# Altium footprint library BOBINAS E INDUTORES.PcbLib: 7 footprints
Each footprint in its own frame and in the unit in brackets; x right, y up, seen from the top. Pads: shape width x height; smd on the part's side, far side on the other; paste and mask are expansions set on the pad; w line width, h text height; cw(c..) or ccw(c..) is an arc to the next point about the centre after c.
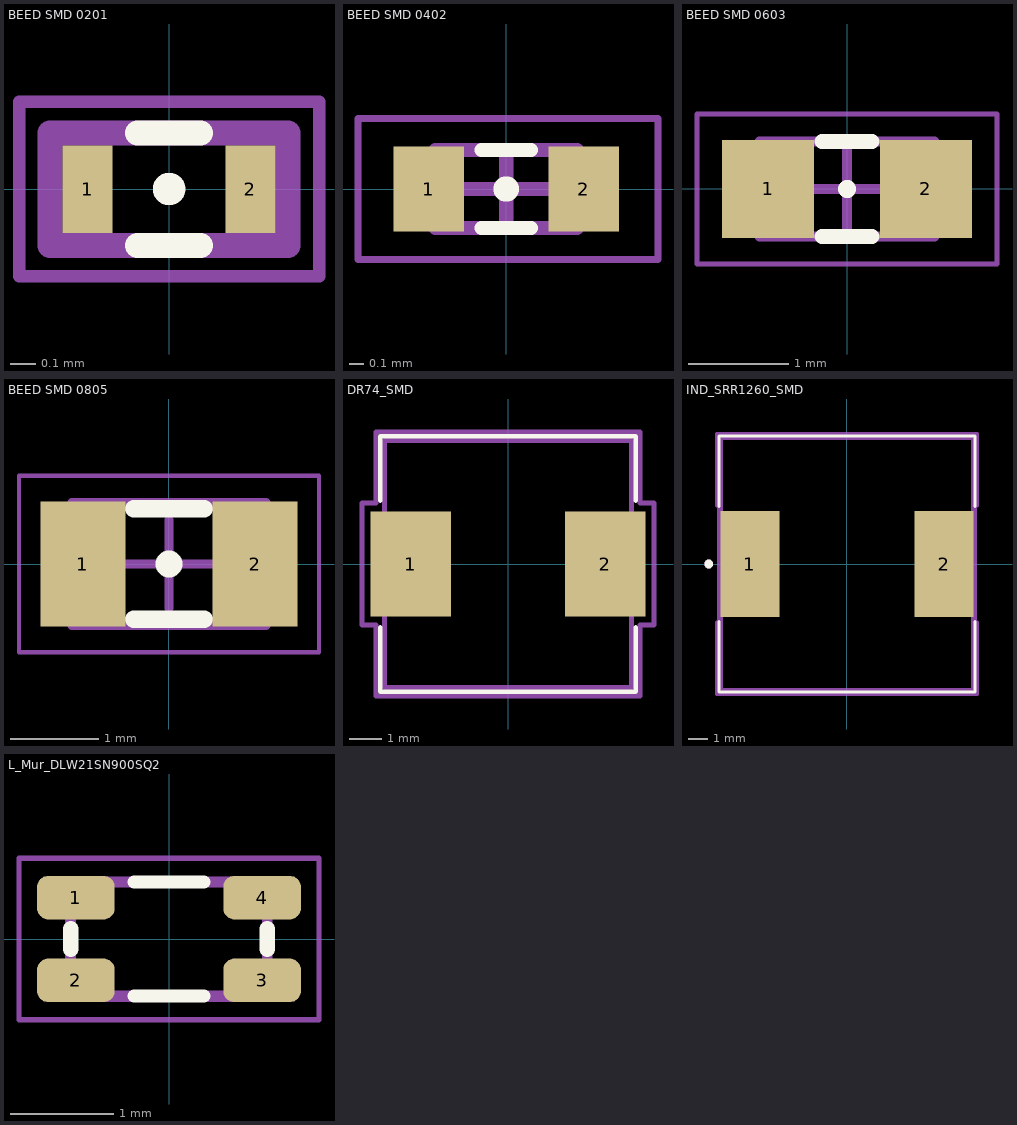
[diagram p0: the footprints below, top view; thin cyan lines are the x and y axes]

## BEED SMD 0201 [mm]
pads (2):
  rect 0.2x0.35 smd: 1(-0.325,0) 2(0.325,0)
Top Overlay:
  circle w0.1: c0,0 r0.015
  lines w0.1: -0.125,-0.225 0.125,-0.225 ; -0.125,0.225 0.125,0.225
Mechanical 13:
  lines w0.1: -0.475,-0.225 0.475,-0.225 0.475,0.225 -0.475,0.225 -0.475,-0.225
Mechanical 15:
  lines w0.05: -0.6,-0.35 0.6,-0.35 0.6,0.35 -0.6,0.35 -0.6,-0.35

## BEED SMD 0402 [mm]
pads (2):
  rect 0.5x0.6 smd: 1(-0.55,0) 2(0.55,0)
Top Overlay:
  circle w0.15: c0,0 r0.015
  lines w0.1: -0.175,-0.275 0.175,-0.275 ; -0.175,0.275 0.175,0.275
Mechanical 13:
  lines w0.1: -0.5,-0.275 -0.5,0.275 0.5,0.275 0.5,-0.275 -0.5,-0.275
Mechanical 15:
  lines w0.05: -1.05,-0.5 -1.05,0.5 1.075,0.5 1.075,-0.5 -1.05,-0.5
  lines w0.1: -0.3,0 0.3,0 ; 0,-0.275 0,0.275
3D body "ELJ-QF10NGF--3DModel-STEP-46669.STEP": height 0.51, standoff 0.01, extent -0.5,-0.275 0.5,0.275

## BEED SMD 0603 [mm] "Chip Inductor, 2-Leads, Body 1,60x0,80mm, IPC Medium Density"
height 0.8
pads (2):
  rect 0.92x0.98 smd: 1(-0.79,0) 2(0.79,0)
Top Overlay:
  circle w0.15: c0,0 r0.015
  lines w0.15: -0.25,-0.475 0.25,-0.475 ; -0.25,0.475 0.25,0.475
Mechanical 13:
  lines w0.1: -0.875,-0.475 0.875,-0.475 0.875,0.475 -0.875,0.475 -0.875,-0.475
Mechanical 15:
  lines w0.05: -1.5,-0.75 1.5,-0.75 1.5,0.75 -1.5,0.75 -1.5,-0.75
  lines w0.1: -0.475,0 0.475,0 ; 0,-0.475 0,0.475
3D body "BEED SMD 0603.step": height 0.85, standoff 0.05, extent -0.875,-0.475 0.875,0.475

## BEED SMD 0805 [mm] "Chip Inductor, 2-Leads, Body 2,00x1,20mm, IPC Medium Density"
height 0.9
pads (2):
  rect 0.96x1.42 smd: 1(-0.975,0) 2(0.975,0)
Top Overlay:
  circle w0.254: c0,0 r0.025
  lines w0.2: -0.4,-0.625 0.4,-0.625 ; -0.4,0.625 0.4,0.625
Mechanical 13:
  lines w0.1: -1.1,-0.7 1.1,-0.7 1.1,0.7 -1.1,0.7 -1.1,-0.7
Mechanical 15:
  lines w0.05: -1.7,-1 1.7,-1 1.7,1 -1.7,1 -1.7,-1
  lines w0.1: -0.5,0 0.5,0 ; 0,-0.5 0,0.5
3D body "BEED SMD 0805.step": height 0.92, standoff 0.02, extent -1.1,-0.7 1.1,0.7

## DR74_SMD [mil] "SMD 2 PADS (7.60mm x 7.60mm)"
height 171.26
pads (2):
  rect 98x128 smd: 1(-118,0) 2(118,0)
Top Overlay:
  lines w6: -155,-77.1 -155,-155 155,-155 155,-77.1 ; -155,77.1 -155,155 155,155 155,77.1
Mechanical 1:
  lines w1: -150,-150 150,-150 150,150 -150,150 -150,-150
Mechanical 16:
  lines w6: -177,-74 -177,74 -160,74 -160,160 160,160 160,74 177,74 177,-74 160,-74 160,-160 -160,-160 -160,-74 -177,-74 ; -150,-150 150,-150 150,150 -150,150 -150,-150
3D body "User Library-Ind DR73-74.step": height 171.26, standoff 0, extent -149.6,-149.6 149.61,149.61

## IND_SRR1260_SMD [mm]
height 6
pads (2):
  rect 3x5.41 smd: 1(-4.951,0) 2(4.951,0)
Top Overlay:
  circle w0.25: c-7.061,0 r0.1
  lines w0.152: -6.528,-2.947 -6.528,-6.528 6.528,-6.528 6.528,-2.947 ; -6.528,2.947 -6.528,6.528 6.528,6.528 6.528,2.947
Mechanical 1:
  circle w0.025: c-6.325,0 r0.076
  lines w0.025: -6.401,-6.401 6.401,-6.401 6.401,6.401 -6.401,6.401 -6.401,-6.401
Mechanical 16:
  circle w0.25: c-7.061,0 r0.1
  lines w0.025: -6.515,-6.401 -6.515,6.401 ; -6.515,-6.401 -6.642,-6.147 -6.388,-6.147 -6.515,-6.401 ; -6.515,6.401 -6.642,6.147 -6.388,6.147 -6.515,6.401
  lines w0.152: -6.655,-6.655 -6.655,-2.959 -6.553,-2.959 -6.553,2.959 -6.655,2.959 -6.655,6.655 6.655,6.655 6.655,2.959 6.553,2.959 6.553,-2.959 6.655,-2.959 6.655,-6.655 -6.655,-6.655 ; -6.401,-6.401 6.401,-6.401 6.401,6.401 -6.401,6.401 -6.401,-6.401
3D body "IND_BOURNS_SRR1260.step": height 6.5, standoff 0, extent -6.401,-6.403 6.401,6.403

## L_Mur_DLW21SN900SQ2 [mm] "Common Mode Choke 0.079\" L x 0.047\" W (2.00mm x 1.20mm)"
height 1.2
pads (4):
  rrect50% 0.75x0.42 smd: 1(-0.9,0.4) 2(-0.9,-0.4) 3(0.9,-0.4) 4(0.9,0.4)
Top Overlay:
  lines w0.127: -0.34,-0.55 0.34,-0.55 ; -0.34,0.55 0.34,0.55
  lines w0.15: -0.95,-0.1 -0.95,0.1 ; 0.95,-0.1 0.95,0.1
Mechanical 1:
  lines w0.05: -1.45,-0.78 -1.45,0.78 1.45,0.78 1.45,-0.78 -1.45,-0.78
Mechanical 2:
  lines w0.001: -1,-0.6 -1,0.6 1,0.6 1,-0.6 -1,-0.6
Mechanical 3:
  lines w0.1: -0.95,-0.55 -0.95,0.55 0.95,0.55 0.95,-0.55 -0.95,-0.55
3D body: height 1.2, standoff 0.02, extent -1,-0.6 1,0.6